# Altium footprint library AVcont.PcbLib: 1 footprints
Each footprint in its own frame and in the unit in brackets; x right, y up, seen from the top. Pads: shape width x height; smd on the part's side, far side on the other; paste and mask are expansions set on the pad; w line width, h text height; cw(c..) or ccw(c..) is an arc to the next point about the centre after c.
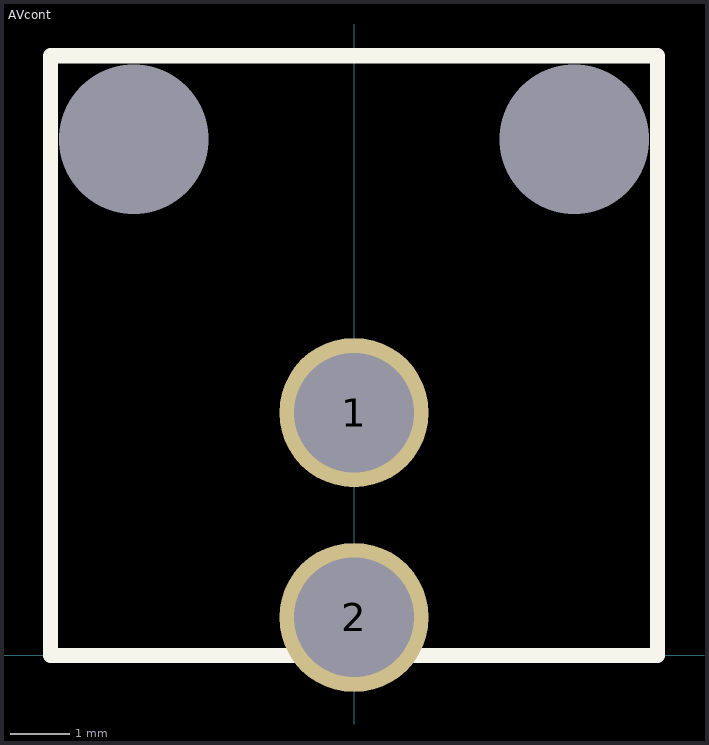
[diagram p0: the footprint, top view; thin cyan lines are the x and y axes]

## AVcont [mm]
pads (4):
  round 2.5 hole 2: 1(0,4.064) 2(0,0.635)
  round 0 hole 2.5 square: 3(-3.683,8.636) 4(3.683,8.636)
Top Overlay:
  lines w0.254: -5.08,0 0,0 5.08,0 5.08,10.033 -5.08,10.033 -5.08,0